# EAGLE library part NCP3170 (library Schaltregler - NCP3170)
Name des Bauteiles: -->NCP3170 Daten: 4.5 V to 18 V Operating Input Voltage Range, 90 mOhm High-Side, 25 mOhm Low-Side Switch, FMEA Fault Tolerant During Pin Short Test, 3 A Continuous Output Current, Fixed 500 kHz and 1 MHz PWM Operation, Cycle-by-Cycle Current Monitoring, 1.5% Initial Output Accuracy, Internal 4.6 ms Soft-Start, Short-Circuit Protection, Turn on Into Pre-bias, Power Good Indication, Light Load Efficiency, Thermal Shutdown, These are Pb-Free Devices Artikelnummer:#keine feste Artikelnummer vorhanden / Atikel nicht lagermäßig vorhanden! Datenblatt:www.alldatasheet.com __________________________________________ generated by Eagle Description Tool am : 05.05.2014 11:48:22 erstellt von: hm
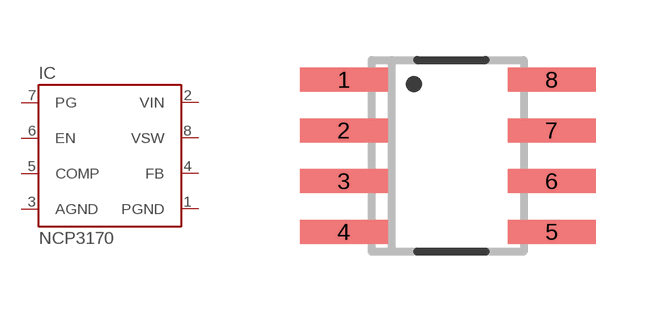
[diagram p0: symbol with the pads of SO8; footprint SO8]

Designator prefix IC

## NCP3170ADR2G  [SO8]
1  PGND
2  VIN
3  AGND
4  FB
5  COMP
6  EN
7  PG
8  VSW

## Footprint SO8 (pad centres in mm)
smd 2.2 x 0.6: 1 -2.6,1.905; 2 -2.6,0.635; 3 -2.6,-0.635; 4 -2.6,-1.905; 5 2.6,-1.905; 6 2.6,-0.635; 7 2.6,0.635; 8 2.6,1.905